# EAGLE library part 3PDT (library switch)
3PDT 9 pin footswitch SF17020F-0302-21R-L Source: 3PDT.jpg
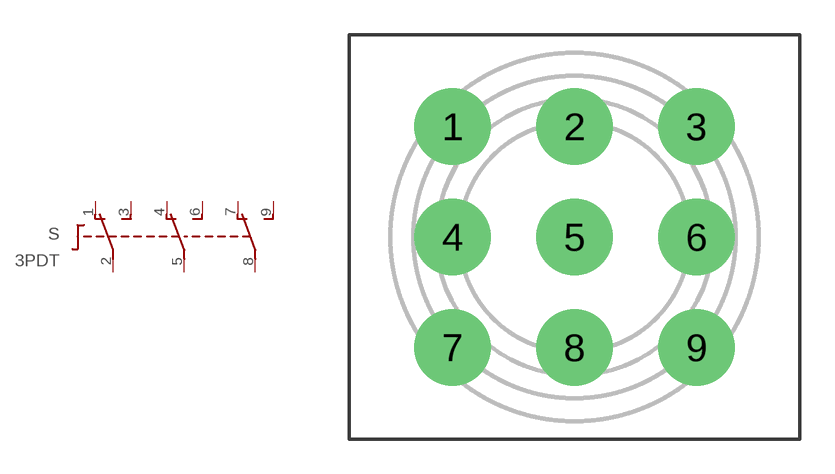
[diagram p5: symbol with the pads of 3PDT; footprint 3PDT]

Designator prefix S

## 3PDT  [3PDT]
1  O1  pas
2  P1  pas
3  S1  pas
4  O2  pas
5  P2  pas
6  S2  pas
7  O3  pas
8  P3  pas
9  S3  pas

## Footprint 3PDT (pad centres in mm)
3PDT 9 pin footswitch SF17020F-0302-21R-L Source: 3PDT.jpg
drill 2.3 pad 3.1: 1 -5.3,4.8; 2 0,4.8; 3 5.3,4.8; 4 -5.3,0; 5 0,0; 6 5.3,0; 7 -5.3,-4.8; 8 0,-4.8; 9 5.3,-4.8